# Altium footprint library TBLH10-350-10BK.PcbLib: 2 footprints
Each footprint in its own frame and in the unit in brackets; x right, y up, seen from the top. Pads: shape width x height; smd on the part's side, far side on the other; paste and mask are expansions set on the pad; w line width, h text height; cw(c..) or ccw(c..) is an arc to the next point about the centre after c.
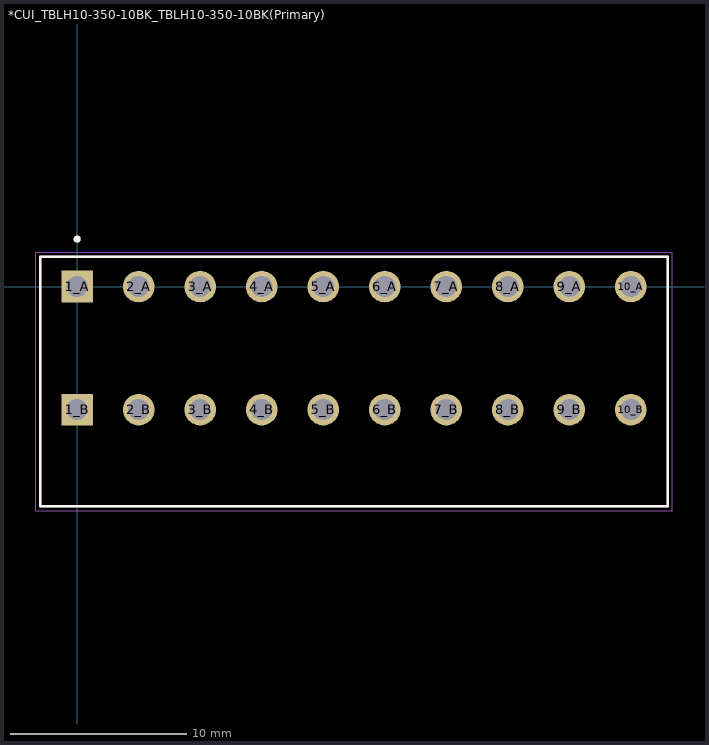
[diagram p0: the footprints below, top view; thin cyan lines are the x and y axes]

## *CUI_TBLH10-350-10BK_TBLH10-350-10BK(Primary) [mm]
pads (20):
  rect 1.8x1.8 hole 1.2: 1_A(0,0) 1_B(0,-7)
  round 1.8 hole 1.2: 2_A(3.5,0) 2_B(3.5,-7) 3_A(7,0) 3_B(7,-7) 4_A(10.5,0) 4_B(10.5,-7) 5_A(14,0) 5_B(14,-7) 6_A(17.5,0) 6_B(17.5,-7) 7_A(21,0) 7_B(21,-7) 8_A(24.5,0) 8_B(24.5,-7) 9_A(28,0) 9_B(28,-7) 10_A(31.5,0) 10_B(31.5,-7)
Top Overlay:
  circle w0.2: c0,2.7 r0.1
  lines w0.127: -2.1,-12.5 33.6,-12.5 33.6,1.7 -2.1,1.7 -2.1,-12.5
Mechanical 4:
  circle w0.2: c0,2.7 r0.1
  circle w0.2: c0,2.7 r0.1
  lines w0.127: -2.1,-12.5 33.6,-12.5 ; -2.1,-12.5 -2.1,1.7 ; -2.1,-12.5 33.6,-12.5 ; -2.1,-12.5 -2.1,1.7 ; -2.1,1.7 33.6,1.7 ; -2.1,1.7 33.6,1.7 ; 33.6,-12.5 33.6,1.7 ; 33.6,-12.5 33.6,1.7
Mechanical 16:
  lines w0.05: -2.35,-12.75 -2.35,1.95 33.85,1.95 33.85,-12.75 -2.35,-12.75

## PCBComponent_1 [mm]